# Altium schematic symbol library STM32系列单片机.SchLib: 11 symbols
Pins are listed as number, name and electrical type; pins without a type are passive.

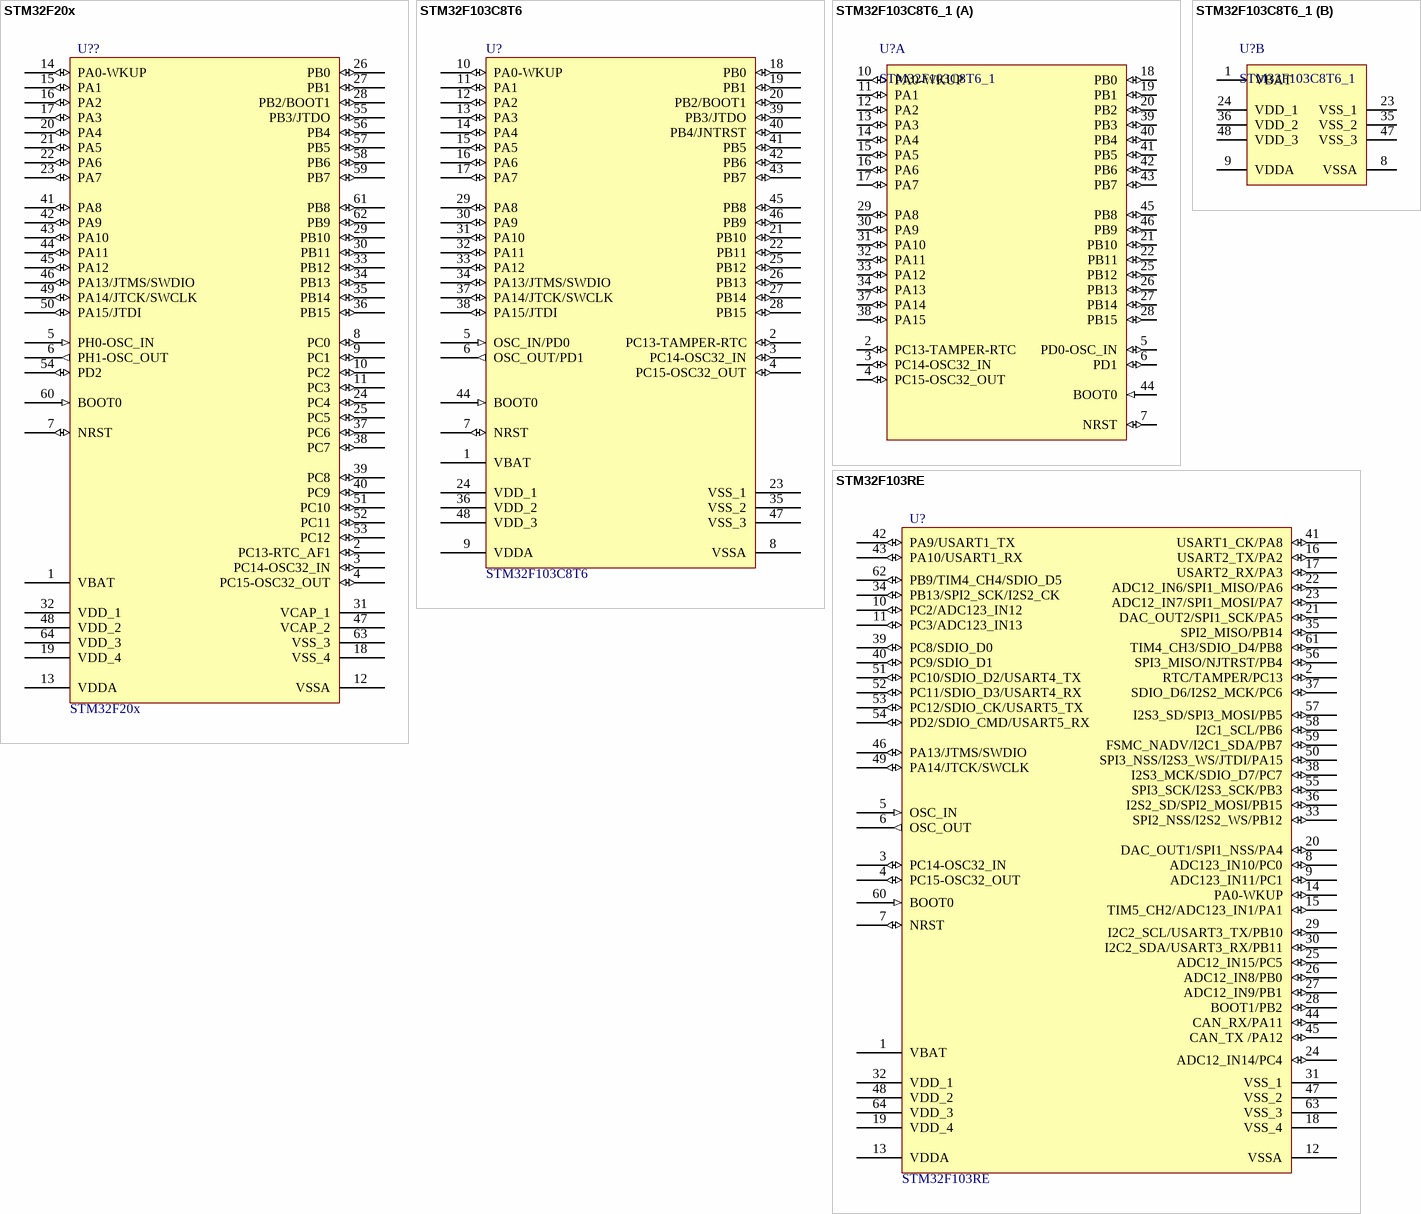
[diagram p0: symbols STM32F20x to STM32F103RE]

## STM32F20x
designator U??
32位ST单片机; 版权归属: 源创客; BOM名称: 32位ST单片机; 学习资源: www.ooocke.com
footprint LQFP64 10X10_L (64脚，体宽10x10mm，脚距0.5mm)
footprint LQFP64 10X10_M (64脚，体宽10x10mm，脚距0.5mm)
footprint LQFP64 10X10_N (64脚，体宽10x10mm，脚距0.5mm)
pins: 1 VBAT (power), 2 PC13-RTC_AF1 (io), 3 PC14-OSC32_IN (io), 4 PC15-OSC32_OUT (io), 5 PH0-OSC_IN (in), 6 PH1-OSC_OUT (out), 7 NRST (io), 8 PC0 (io), 9 PC1 (io), 10 PC2 (io), 11 PC3 (io), 12 VSSA (power), 13 VDDA (power), 14 PA0-WKUP (io), 15 PA1 (io), 16 PA2 (io), 17 PA3 (io), 18 VSS_4 (power), 19 VDD_4 (power), 20 PA4 (io), 21 PA5 (io), 22 PA6 (io), 23 PA7 (io), 24 PC4 (io), 25 PC5 (io), 26 PB0 (io), 27 PB1 (io), 28 PB2/BOOT1 (io), 29 PB10 (io), 30 PB11 (io), 31 VCAP_1, 32 VDD_1 (power), 33 PB12 (io), 34 PB13 (io), 35 PB14 (io), 36 PB15 (io), 37 PC6 (io), 38 PC7 (io), 39 PC8 (io), 40 PC9 (io), 41 PA8 (io), 42 PA9 (io), 43 PA10 (io), 44 PA11 (io), 45 PA12 (io), 46 PA13/JTMS/SWDIO (io), 47 VCAP_2, 48 VDD_2 (power), 49 PA14/JTCK/SWCLK (io), 50 PA15/JTDI (io), 51 PC10 (io), 52 PC11 (io), 53 PC12 (io), 54 PD2 (io), 55 PB3/JTDO (io), 56 PB4 (io), 57 PB5 (io), 58 PB6 (io), 59 PB7 (io), 60 BOOT0 (in), 61 PB8 (io), 62 PB9 (io), 63 VSS_3 (power), 64 VDD_3 (power)

## STM32F103C8T6
designator U?
Flaah:64/RAM:20/IO:36; BOM名称: 32位STM单片机; 版权归属: 源创客; 学习资源: www.ooocke.com
footprint LQFP48 7X7_N (48脚，体宽7x7mm，脚距0.5mm)
footprint LQFP48 7X7_M (48脚，体宽7x7mm，脚距0.5mm)
footprint LQFP48 7X7_L (48脚，体宽7x7mm，脚距0.5mm)
pins: 1 VBAT (power), 2 PC13-TAMPER-RTC (io), 3 PC14-OSC32_IN (io), 4 PC15-OSC32_OUT (io), 5 OSC_IN/PD0 (in), 6 OSC_OUT/PD1 (out), 7 NRST (io), 8 VSSA (power), 9 VDDA (power), 10 PA0-WKUP (io), 11 PA1 (io), 12 PA2 (io), 13 PA3 (io), 14 PA4 (io), 15 PA5 (io), 16 PA6 (io), 17 PA7 (io), 18 PB0 (io), 19 PB1 (io), 20 PB2/BOOT1 (io), 21 PB10 (io), 22 PB11 (io), 23 VSS_1 (power), 24 VDD_1 (power), 25 PB12 (io), 26 PB13 (io), 27 PB14 (io), 28 PB15 (io), 29 PA8 (io), 30 PA9 (io), 31 PA10 (io), 32 PA11 (io), 33 PA12 (io), 34 PA13/JTMS/SWDIO (io), 35 VSS_2 (power), 36 VDD_2 (power), 37 PA14/JTCK/SWCLK (io), 38 PA15/JTDI (io), 39 PB3/JTDO (io), 40 PB4/JNTRST (io), 41 PB5 (io), 42 PB6 (io), 43 PB7 (io), 44 BOOT0 (in), 45 PB8 (io), 46 PB9 (io), 47 VSS_3 (power), 48 VDD_3 (power)

## STM32F103C8T6_1
designator U?
Flaah:64/RAM:20/IO:36; BOM名称: 32位STM单片机; 版权归属: 源创客; 学习资源: www.ooocke.com
footprint LQFP48 7X7_N (48脚，体宽7x7mm，脚距0.5mm)
footprint LQFP48 7X7_L (48脚，体宽7x7mm，脚距0.5mm)
footprint LQFP48 7X7_M (48脚，体宽7x7mm，脚距0.5mm)
part A pins: 2 PC13-TAMPER-RTC (io), 3 PC14-OSC32_IN (io), 4 PC15-OSC32_OUT (io), 5 PD0-OSC_IN (io), 6 PD1 (io), 7 NRST (io), 10 PA0-WKUP (io), 11 PA1 (io), 12 PA2 (io), 13 PA3 (io), 14 PA4 (io), 15 PA5 (io), 16 PA6 (io), 17 PA7 (io), 18 PB0 (io), 19 PB1 (io), 20 PB2 (io), 21 PB10 (io), 22 PB11 (io), 25 PB12 (io), 26 PB13 (io), 27 PB14 (io), 28 PB15 (io), 29 PA8 (io), 30 PA9 (io), 31 PA10 (io), 32 PA11 (io), 33 PA12 (io), 34 PA13 (io), 37 PA14 (io), 38 PA15 (io), 39 PB3 (io), 40 PB4 (io), 41 PB5 (io), 42 PB6 (io), 43 PB7 (io), 44 BOOT0 (in), 45 PB8 (io), 46 PB9 (io)
part B pins: 1 VBAT (power), 8 VSSA (power), 9 VDDA (power), 23 VSS_1 (power), 24 VDD_1 (power), 35 VSS_2 (power), 36 VDD_2 (power), 47 VSS_3 (power), 48 VDD_3 (power)

## STM32F103RE
designator U?
32位STM单片机; 版权归属: 源创客; BOM名称: 32位STM单片机; 学习资源: www.ooocke.com
footprint LQFP64 10X10_L (64脚，体宽10x10mm，脚距0.5mm)
footprint LQFP64 10X10_M (64脚，体宽10x10mm，脚距0.5mm)
footprint LQFP64 10X10_N (64脚，体宽10x10mm，脚距0.5mm)
pins: 1 VBAT (power), 2 RTC/TAMPER/PC13 (io), 3 PC14-OSC32_IN (io), 4 PC15-OSC32_OUT (io), 5 OSC_IN (in), 6 OSC_OUT (out), 7 NRST (io), 8 ADC123_IN10/PC0 (io), 9 ADC123_IN11/PC1 (io), 10 PC2/ADC123_IN12 (io), 11 PC3/ADC123_IN13 (io), 12 VSSA (power), 13 VDDA (power), 14 PA0-WKUP (io), 15 TIM5_CH2/ADC123_IN1/PA1 (io), 16 USART2_TX/PA2 (io), 17 USART2_RX/PA3 (io), 18 VSS_4 (power), 19 VDD_4 (power), 20 DAC_OUT1/SPI1_NSS/PA4 (io), 21 DAC_OUT2/SPI1_SCK/PA5 (io), 22 ADC12_IN6/SPI1_MISO/PA6 (io), 23 ADC12_IN7/SPI1_MOSI/PA7 (io), 24 ADC12_IN14/PC4 (io), 25 ADC12_IN15/PC5 (io), 26 ADC12_IN8/PB0 (io), 27 ADC12_IN9/PB1 (io), 28 BOOT1/PB2 (io), 29 I2C2_SCL/USART3_TX/PB10 (io), 30 I2C2_SDA/USART3_RX/PB11 (io), 31 VSS_1, 32 VDD_1 (power), 33 SPI2_NSS/I2S2_WS/PB12 (io), 34 PB13/SPI2_SCK/I2S2_CK (io), 35 SPI2_MISO/PB14 (io), 36 I2S2_SD/SPI2_MOSI/PB15 (io), 37 SDIO_D6/I2S2_MCK/PC6 (io), 38 I2S3_MCK/SDIO_D7/PC7 (io), 39 PC8/SDIO_D0 (io), 40 PC9/SDIO_D1 (io), 41 USART1_CK/PA8 (io), 42 PA9/USART1_TX (io), 43 PA10/USART1_RX (io), 44 CAN_RX/PA11 (io), 45 CAN_TX /PA12 (io), 46 PA13/JTMS/SWDIO (io), 47 VSS_2, 48 VDD_2 (power), 49 PA14/JTCK/SWCLK (io), 50 SPI3_NSS/I2S3_WS/JTDI/PA15 (io), 51 PC10/SDIO_D2/USART4_TX (io), 52 PC11/SDIO_D3/USART4_RX (io), 53 PC12/SDIO_CK/USART5_TX (io), 54 PD2/SDIO_CMD/USART5_RX (io), 55 SPI3_SCK/I2S3_SCK/PB3 (io), 56 SPI3_MISO/NJTRST/PB4 (io), 57 I2S3_SD/SPI3_MOSI/PB5 (io), 58 I2C1_SCL/PB6 (io), 59 FSMC_NADV/I2C1_SDA/PB7 (io), 60 BOOT0 (in), 61 TIM4_CH3/SDIO_D4/PB8 (io), 62 PB9/TIM4_CH4/SDIO_D5 (io), 63 VSS_3 (power), 64 VDD_3 (power)

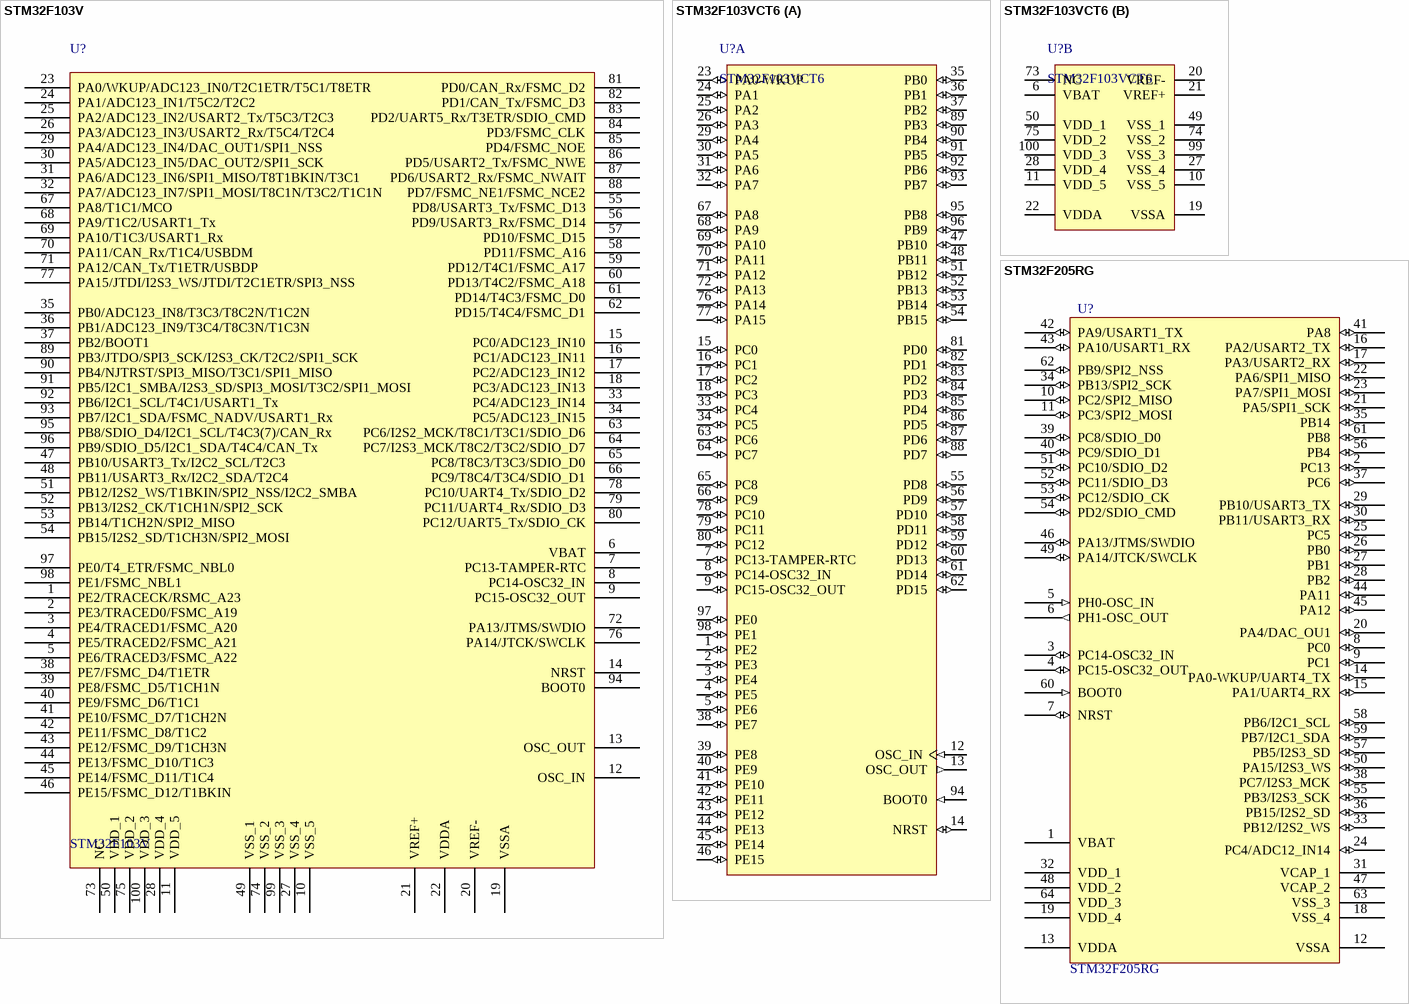
[diagram p1: symbols STM32F103V to STM32F205RG]

## STM32F103V
designator U?
32位STM单片机100引脚; 版权归属: 源创客; BOM名称: 32位STM单片机100引脚; 学习资源: www.ooocke.com
footprint LQFP100 14X14_L (100脚，体宽14x14mm，脚距0.5mm)
footprint LQFP100 14X14_M (100脚，体宽14x14mm，脚距0.5mm)
footprint LQFP100 14X14_N (100脚，体宽14x14mm，脚距0.5mm)
pins: 1 PE2/TRACECK/RSMC_A23, 2 PE3/TRACED0/FSMC_A19, 3 PE4/TRACED1/FSMC_A20, 4 PE5/TRACED2/FSMC_A21, 5 PE6/TRACED3/FSMC_A22, 6 VBAT, 7 PC13-TAMPER-RTC, 8 PC14-OSC32_IN, 9 PC15-OSC32_OUT, 10 VSS_5, 11 VDD_5, 12 OSC_IN, 13 OSC_OUT, 14 NRST, 15 PC0/ADC123_IN10, 16 PC1/ADC123_IN11, 17 PC2/ADC123_IN12, 18 PC3/ADC123_IN13, 19 VSSA, 20 VREF-, 21 VREF+, 22 VDDA, 23 PA0/WKUP/ADC123_IN0/T2C1ETR/T5C1/T8ETR, 24 PA1/ADC123_IN1/T5C2/T2C2, 25 PA2/ADC123_IN2/USART2_Tx/T5C3/T2C3, 26 PA3/ADC123_IN3/USART2_Rx/T5C4/T2C4, 27 VSS_4, 28 VDD_4, 29 PA4/ADC123_IN4/DAC_OUT1/SPI1_NSS, 30 PA5/ADC123_IN5/DAC_OUT2/SPI1_SCK, 31 PA6/ADC123_IN6/SPI1_MISO/T8T1BKIN/T3C1, 32 PA7/ADC123_IN7/SPI1_MOSI/T8C1N/T3C2/T1C1N, 33 PC4/ADC123_IN14, 34 PC5/ADC123_IN15, 35 PB0/ADC123_IN8/T3C3/T8C2N/T1C2N, 36 PB1/ADC123_IN9/T3C4/T8C3N/T1C3N, 37 PB2/BOOT1, 38 PE7/FSMC_D4/T1ETR, 39 PE8/FSMC_D5/T1CH1N, 40 PE9/FSMC_D6/T1C1, 41 PE10/FSMC_D7/T1CH2N, 42 PE11/FSMC_D8/T1C2, 43 PE12/FSMC_D9/T1CH3N, 44 PE13/FSMC_D10/T1C3, 45 PE14/FSMC_D11/T1C4, 46 PE15/FSMC_D12/T1BKIN, 47 PB10/USART3_Tx/I2C2_SCL/T2C3, 48 PB11/USART3_Rx/I2C2_SDA/T2C4, 49 VSS_1, 50 VDD_1, 51 PB12/I2S2_WS/T1BKIN/SPI2_NSS/I2C2_SMBA, 52 PB13/I2S2_CK/T1CH1N/SPI2_SCK, 53 PB14/T1CH2N/SPI2_MISO, 54 PB15/I2S2_SD/T1CH3N/SPI2_MOSI, 55 PD8/USART3_Tx/FSMC_D13, 56 PD9/USART3_Rx/FSMC_D14, 57 PD10/FSMC_D15, 58 PD11/FSMC_A16, 59 PD12/T4C1/FSMC_A17, 60 PD13/T4C2/FSMC_A18, 61 PD14/T4C3/FSMC_D0, 62 PD15/T4C4/FSMC_D1, 63 PC6/I2S2_MCK/T8C1/T3C1/SDIO_D6, 64 PC7/I2S3_MCK/T8C2/T3C2/SDIO_D7, 65 PC8/T8C3/T3C3/SDIO_D0, 66 PC9/T8C4/T3C4/SDIO_D1, 67 PA8/T1C1/MCO, 68 PA9/T1C2/USART1_Tx, 69 PA10/T1C3/USART1_Rx, 70 PA11/CAN_Rx/T1C4/USBDM, 71 PA12/CAN_Tx/T1ETR/USBDP, 72 PA13/JTMS/SWDIO, 73 NC, 74 VSS_2, 75 VDD_2, 76 PA14/JTCK/SWCLK, 77 PA15/JTDI/I2S3_WS/JTDI/T2C1ETR/SPI3_NSS, 78 PC10/UART4_Tx/SDIO_D2, 79 PC11/UART4_Rx/SDIO_D3, 80 PC12/UART5_Tx/SDIO_CK, 81 PD0/CAN_Rx/FSMC_D2, 82 PD1/CAN_Tx/FSMC_D3, 83 PD2/UART5_Rx/T3ETR/SDIO_CMD, 84 PD3/FSMC_CLK, 85 PD4/FSMC_NOE, 86 PD5/USART2_Tx/FSMC_NWE, 87 PD6/USART2_Rx/FSMC_NWAIT, 88 PD7/FSMC_NE1/FSMC_NCE2, 89 PB3/JTDO/SPI3_SCK/I2S3_CK/T2C2/SPI1_SCK, 90 PB4/NJTRST/SPI3_MISO/T3C1/SPI1_MISO, 91 PB5/I2C1_SMBA/I2S3_SD/SPI3_MOSI/T3C2/SPI1_MOSI, 92 PB6/I2C1_SCL/T4C1/USART1_Tx, 93 PB7/I2C1_SDA/FSMC_NADV/USART1_Rx, 94 BOOT0, 95 PB8/SDIO_D4/I2C1_SCL/T4C3(7)/CAN_Rx, 96 PB9/SDIO_D5/I2C1_SDA/T4C4/CAN_Tx, 97 PE0/T4_ETR/FSMC_NBL0, 98 PE1/FSMC_NBL1, 99 VSS_3, 100 VDD_3

## STM32F103VCT6
designator U?
32位STM单片机100引脚; 版权归属: 源创客; BOM名称: 32位STM单片机100引脚; 学习资源: www.ooocke.com
footprint LQFP100 14X14_N (100脚，体宽14x14mm，脚距0.5mm)
footprint LQFP100 14X14_L (100脚，体宽14x14mm，脚距0.5mm)
footprint LQFP100 14X14_M (100脚，体宽14x14mm，脚距0.5mm)
part A pins: 1 PE2 (io), 2 PE3 (io), 3 PE4 (io), 4 PE5 (io), 5 PE6 (io), 7 PC13-TAMPER-RTC (io), 8 PC14-OSC32_IN (io), 9 PC15-OSC32_OUT (io), 12 OSC_IN (in), 13 OSC_OUT (out), 14 NRST (io), 15 PC0 (io), 16 PC1 (io), 17 PC2 (io), 18 PC3 (io), 23 PA0-WKUP (io), 24 PA1 (io), 25 PA2 (io), 26 PA3 (io), 29 PA4 (io), 30 PA5 (io), 31 PA6 (io), 32 PA7 (io), 33 PC4 (io), 34 PC5 (io), 35 PB0 (io), 36 PB1 (io), 37 PB2 (io), 38 PE7 (io), 39 PE8 (io), 40 PE9 (io), 41 PE10 (io), 42 PE11 (io), 43 PE12 (io), 44 PE13 (io), 45 PE14 (io), 46 PE15 (io), 47 PB10 (io), 48 PB11 (io), 51 PB12 (io), 52 PB13 (io), 53 PB14 (io), 54 PB15 (io), 55 PD8 (io), 56 PD9 (io), 57 PD10 (io), 58 PD11 (io), 59 PD12 (io), 60 PD13 (io), 61 PD14 (io), 62 PD15 (io), 63 PC6 (io), 64 PC7 (io), 65 PC8 (io), 66 PC9 (io), 67 PA8 (io), 68 PA9 (io), 69 PA10 (io), 70 PA11 (io), 71 PA12 (io), 72 PA13 (io), 76 PA14 (io), 77 PA15 (io), 78 PC10 (io), 79 PC11 (io), 80 PC12 (io), 81 PD0 (io), 82 PD1 (io), 83 PD2 (io), 84 PD3 (io), 85 PD4 (io), 86 PD5 (io), 87 PD6 (io), 88 PD7 (io), 89 PB3 (io), 90 PB4 (io), 91 PB5 (io), 92 PB6 (io), 93 PB7 (io), 94 BOOT0 (in), 95 PB8 (io), 96 PB9 (io), 97 PE0 (io), 98 PE1 (io)
part B pins: 6 VBAT (power), 10 VSS_5 (power), 11 VDD_5 (power), 19 VSSA (power), 20 VREF- (power), 21 VREF+ (power), 22 VDDA (power), 27 VSS_4 (power), 28 VDD_4 (power), 49 VSS_1 (power), 50 VDD_1 (power), 73 NC, 74 VSS_2 (power), 75 VDD_2 (power), 99 VSS_3 (power), 100 VDD_3 (power)

## STM32F205RG
designator U?
32位STM单片机; 版权归属: 源创客; BOM名称: 32位STM单片机; 学习资源: www.ooocke.com
footprint LQFP64 10X10_L (64脚，体宽10x10mm，脚距0.5mm)
footprint LQFP64 10X10_M (64脚，体宽10x10mm，脚距0.5mm)
footprint LQFP64 10X10_N (64脚，体宽10x10mm，脚距0.5mm)
pins: 1 VBAT (power), 2 PC13 (io), 3 PC14-OSC32_IN (io), 4 PC15-OSC32_OUT (io), 5 PH0-OSC_IN (in), 6 PH1-OSC_OUT (out), 7 NRST (io), 8 PC0 (io), 9 PC1 (io), 10 PC2/SPI2_MISO (io), 11 PC3/SPI2_MOSI (io), 12 VSSA (power), 13 VDDA (power), 14 PA0-WKUP/UART4_TX (io), 15 PA1/UART4_RX (io), 16 PA2/USART2_TX (io), 17 PA3/USART2_RX (io), 18 VSS_4 (power), 19 VDD_4 (power), 20 PA4/DAC_OU1 (io), 21 PA5/SPI1_SCK (io), 22 PA6/SPI1_MISO (io), 23 PA7/SPI1_MOSI (io), 24 PC4/ADC12_IN14 (io), 25 PC5 (io), 26 PB0 (io), 27 PB1 (io), 28 PB2 (io), 29 PB10/USART3_TX (io), 30 PB11/USART3_RX (io), 31 VCAP_1, 32 VDD_1 (power), 33 PB12/I2S2_WS (io), 34 PB13/SPI2_SCK (io), 35 PB14 (io), 36 PB15/I2S2_SD (io), 37 PC6 (io), 38 PC7/I2S3_MCK (io), 39 PC8/SDIO_D0 (io), 40 PC9/SDIO_D1 (io), 41 PA8 (io), 42 PA9/USART1_TX (io), 43 PA10/USART1_RX (io), 44 PA11 (io), 45 PA12 (io), 46 PA13/JTMS/SWDIO (io), 47 VCAP_2, 48 VDD_2 (power), 49 PA14/JTCK/SWCLK (io), 50 PA15/I2S3_WS (io), 51 PC10/SDIO_D2 (io), 52 PC11/SDIO_D3 (io), 53 PC12/SDIO_CK (io), 54 PD2/SDIO_CMD (io), 55 PB3/I2S3_SCK (io), 56 PB4 (io), 57 PB5/I2S3_SD (io), 58 PB6/I2C1_SCL (io), 59 PB7/I2C1_SDA (io), 60 BOOT0 (in), 61 PB8 (io), 62 PB9/SPI2_NSS (io), 63 VSS_3 (power), 64 VDD_3 (power)

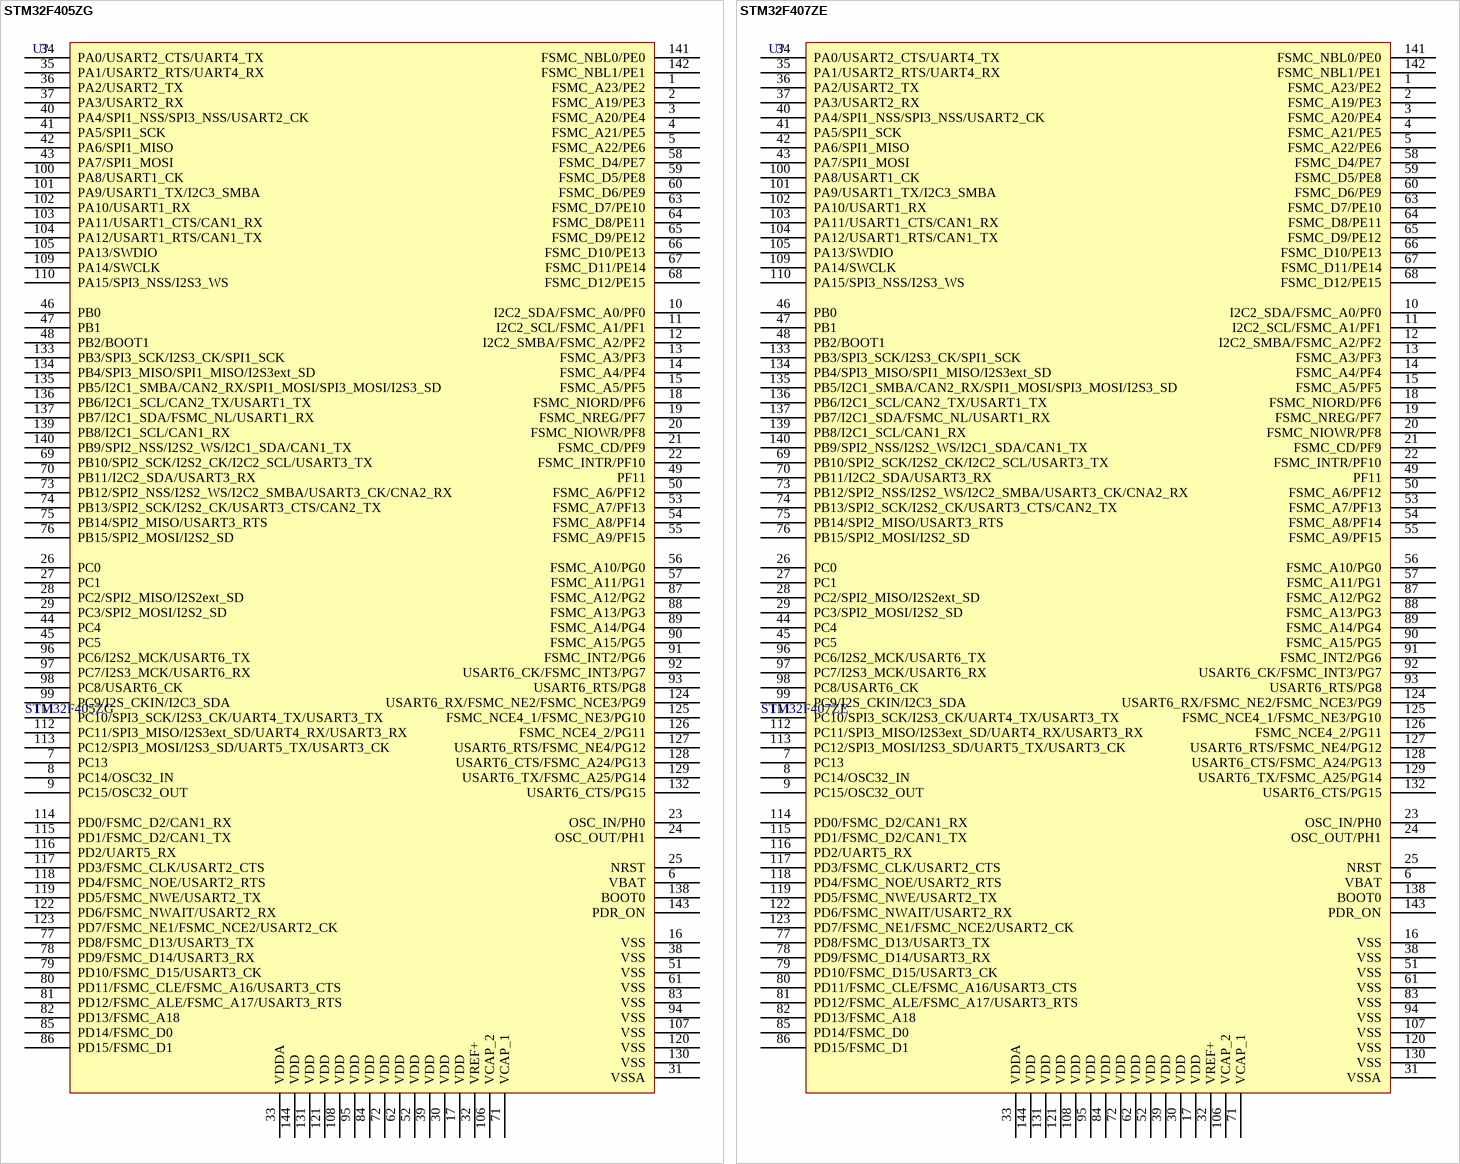
[diagram p2: symbols STM32F405ZG to STM32F407ZE]

## STM32F405ZG
designator U?
Flaah:1024/RAM:192/IO:114; BOM名称: 32位ST单片机; 版权归属: 源创客; 学习资源: www.ooocke.com
footprint LQFP144 20X20_L (144脚，体宽20x20mm，脚距0.5mm)
footprint LQFP144 20X20_M (144脚，体宽20x20mm，脚距0.5mm)
footprint LQFP144 20X20_N (144脚，体宽20x20mm，脚距0.5mm)
pins: 1 FSMC_A23/PE2, 2 FSMC_A19/PE3, 3 FSMC_A20/PE4, 4 FSMC_A21/PE5, 5 FSMC_A22/PE6, 6 VBAT, 7 PC13, 8 PC14/OSC32_IN, 9 PC15/OSC32_OUT, 10 I2C2_SDA/FSMC_A0/PF0, 11 I2C2_SCL/FSMC_A1/PF1, 12 I2C2_SMBA/FSMC_A2/PF2, 13 FSMC_A3/PF3, 14 FSMC_A4/PF4, 15 FSMC_A5/PF5, 16 VSS, 17 VDD, 18 FSMC_NIORD/PF6, 19 FSMC_NREG/PF7, 20 FSMC_NIOWR/PF8, 21 FSMC_CD/PF9, 22 FSMC_INTR/PF10, 23 OSC_IN/PH0, 24 OSC_OUT/PH1, 25 NRST, 26 PC0, 27 PC1, 28 PC2/SPI2_MISO/I2S2ext_SD, 29 PC3/SPI2_MOSI/I2S2_SD, 30 VDD, 31 VSSA, 32 VREF+, 33 VDDA, 34 PA0/USART2_CTS/UART4_TX, 35 PA1/USART2_RTS/UART4_RX, 36 PA2/USART2_TX, 37 PA3/USART2_RX, 38 VSS, 39 VDD, 40 PA4/SPI1_NSS/SPI3_NSS/USART2_CK, 41 PA5/SPI1_SCK, 42 PA6/SPI1_MISO, 43 PA7/SPI1_MOSI, 44 PC4, 45 PC5, 46 PB0, 47 PB1, 48 PB2/BOOT1, 49 PF11, 50 FSMC_A6/PF12, 51 VSS, 52 VDD, 53 FSMC_A7/PF13, 54 FSMC_A8/PF14, 55 FSMC_A9/PF15, 56 FSMC_A10/PG0, 57 FSMC_A11/PG1, 58 FSMC_D4/PE7, 59 FSMC_D5/PE8, 60 FSMC_D6/PE9, 61 VSS, 62 VDD, 63 FSMC_D7/PE10, 64 FSMC_D8/PE11, 65 FSMC_D9/PE12, 66 FSMC_D10/PE13, 67 FSMC_D11/PE14, 68 FSMC_D12/PE15, 69 PB10/SPI2_SCK/I2S2_CK/I2C2_SCL/USART3_TX, 70 PB11/I2C2_SDA/USART3_RX, 71 VCAP_1, 72 VDD, 73 PB12/SPI2_NSS/I2S2_WS/I2C2_SMBA/USART3_CK/CNA2_RX, 74 PB13/SPI2_SCK/I2S2_CK/USART3_CTS/CAN2_TX, 75 PB14/SPI2_MISO/USART3_RTS, 76 PB15/SPI2_MOSI/I2S2_SD, 77 PD8/FSMC_D13/USART3_TX, 78 PD9/FSMC_D14/USART3_RX, 79 PD10/FSMC_D15/USART3_CK, 80 PD11/FSMC_CLE/FSMC_A16/USART3_CTS, 81 PD12/FSMC_ALE/FSMC_A17/USART3_RTS, 82 PD13/FSMC_A18, 83 VSS, 84 VDD, 85 PD14/FSMC_D0, 86 PD15/FSMC_D1, 87 FSMC_A12/PG2, 88 FSMC_A13/PG3, 89 FSMC_A14/PG4, 90 FSMC_A15/PG5, 91 FSMC_INT2/PG6, 92 USART6_CK/FSMC_INT3/PG7, 93 USART6_RTS/PG8, 94 VSS, 95 VDD, 96 PC6/I2S2_MCK/USART6_TX, 97 PC7/I2S3_MCK/USART6_RX, 98 PC8/USART6_CK, 99 PC9/I2S_CKIN/I2C3_SDA, 100 PA8/USART1_CK, 101 PA9/USART1_TX/I2C3_SMBA, 102 PA10/USART1_RX, 103 PA11/USART1_CTS/CAN1_RX, 104 PA12/USART1_RTS/CAN1_TX, 105 PA13/SWDIO, 106 VCAP_2, 107 VSS, 108 VDD, 109 PA14/SWCLK, 110 PA15/SPI3_NSS/I2S3_WS, 111 PC10/SPI3_SCK/I2S3_CK/UART4_TX/USART3_TX, 112 PC11/SPI3_MISO/I2S3ext_SD/UART4_RX/USART3_RX, 113 PC12/SPI3_MOSI/I2S3_SD/UART5_TX/USART3_CK, 114 PD0/FSMC_D2/CAN1_RX, 115 PD1/FSMC_D2/CAN1_TX, 116 PD2/UART5_RX, 117 PD3/FSMC_CLK/USART2_CTS, 118 PD4/FSMC_NOE/USART2_RTS, 119 PD5/FSMC_NWE/USART2_TX, 120 VSS, 121 VDD, 122 PD6/FSMC_NWAIT/USART2_RX, 123 PD7/FSMC_NE1/FSMC_NCE2/USART2_CK, 124 USART6_RX/FSMC_NE2/FSMC_NCE3/PG9, 125 FSMC_NCE4_1/FSMC_NE3/PG10, 126 FSMC_NCE4_2/PG11, 127 USART6_RTS/FSMC_NE4/PG12, 128 USART6_CTS/FSMC_A24/PG13, 129 USART6_TX/FSMC_A25/PG14, 130 VSS, 131 VDD, 132 USART6_CTS/PG15, 133 PB3/SPI3_SCK/I2S3_CK/SPI1_SCK, 134 PB4/SPI3_MISO/SPI1_MISO/I2S3ext_SD, 135 PB5/I2C1_SMBA/CAN2_RX/SPI1_MOSI/SPI3_MOSI/I2S3_SD, 136 PB6/I2C1_SCL/CAN2_TX/USART1_TX, 137 PB7/I2C1_SDA/FSMC_NL/USART1_RX, 138 BOOT0, 139 PB8/I2C1_SCL/CAN1_RX, 140 PB9/SPI2_NSS/I2S2_WS/I2C1_SDA/CAN1_TX, 141 FSMC_NBL0/PE0, 142 FSMC_NBL1/PE1, 143 PDR_ON, 144 VDD

## STM32F407ZE
designator U?
Flaah:512/RAM:192/IO:114; BOM名称: 32位ST单片机; 版权归属: 源创客; 学习资源: www.ooocke.com
footprint LQFP144 20X20_L (144脚，体宽20x20mm，脚距0.5mm)
footprint LQFP144 20X20_M (144脚，体宽20x20mm，脚距0.5mm)
footprint LQFP144 20X20_N (144脚，体宽20x20mm，脚距0.5mm)
pins: 1 FSMC_A23/PE2, 2 FSMC_A19/PE3, 3 FSMC_A20/PE4, 4 FSMC_A21/PE5, 5 FSMC_A22/PE6, 6 VBAT, 7 PC13, 8 PC14/OSC32_IN, 9 PC15/OSC32_OUT, 10 I2C2_SDA/FSMC_A0/PF0, 11 I2C2_SCL/FSMC_A1/PF1, 12 I2C2_SMBA/FSMC_A2/PF2, 13 FSMC_A3/PF3, 14 FSMC_A4/PF4, 15 FSMC_A5/PF5, 16 VSS, 17 VDD, 18 FSMC_NIORD/PF6, 19 FSMC_NREG/PF7, 20 FSMC_NIOWR/PF8, 21 FSMC_CD/PF9, 22 FSMC_INTR/PF10, 23 OSC_IN/PH0, 24 OSC_OUT/PH1, 25 NRST, 26 PC0, 27 PC1, 28 PC2/SPI2_MISO/I2S2ext_SD, 29 PC3/SPI2_MOSI/I2S2_SD, 30 VDD, 31 VSSA, 32 VREF+, 33 VDDA, 34 PA0/USART2_CTS/UART4_TX, 35 PA1/USART2_RTS/UART4_RX, 36 PA2/USART2_TX, 37 PA3/USART2_RX, 38 VSS, 39 VDD, 40 PA4/SPI1_NSS/SPI3_NSS/USART2_CK, 41 PA5/SPI1_SCK, 42 PA6/SPI1_MISO, 43 PA7/SPI1_MOSI, 44 PC4, 45 PC5, 46 PB0, 47 PB1, 48 PB2/BOOT1, 49 PF11, 50 FSMC_A6/PF12, 51 VSS, 52 VDD, 53 FSMC_A7/PF13, 54 FSMC_A8/PF14, 55 FSMC_A9/PF15, 56 FSMC_A10/PG0, 57 FSMC_A11/PG1, 58 FSMC_D4/PE7, 59 FSMC_D5/PE8, 60 FSMC_D6/PE9, 61 VSS, 62 VDD, 63 FSMC_D7/PE10, 64 FSMC_D8/PE11, 65 FSMC_D9/PE12, 66 FSMC_D10/PE13, 67 FSMC_D11/PE14, 68 FSMC_D12/PE15, 69 PB10/SPI2_SCK/I2S2_CK/I2C2_SCL/USART3_TX, 70 PB11/I2C2_SDA/USART3_RX, 71 VCAP_1, 72 VDD, 73 PB12/SPI2_NSS/I2S2_WS/I2C2_SMBA/USART3_CK/CNA2_RX, 74 PB13/SPI2_SCK/I2S2_CK/USART3_CTS/CAN2_TX, 75 PB14/SPI2_MISO/USART3_RTS, 76 PB15/SPI2_MOSI/I2S2_SD, 77 PD8/FSMC_D13/USART3_TX, 78 PD9/FSMC_D14/USART3_RX, 79 PD10/FSMC_D15/USART3_CK, 80 PD11/FSMC_CLE/FSMC_A16/USART3_CTS, 81 PD12/FSMC_ALE/FSMC_A17/USART3_RTS, 82 PD13/FSMC_A18, 83 VSS, 84 VDD, 85 PD14/FSMC_D0, 86 PD15/FSMC_D1, 87 FSMC_A12/PG2, 88 FSMC_A13/PG3, 89 FSMC_A14/PG4, 90 FSMC_A15/PG5, 91 FSMC_INT2/PG6, 92 USART6_CK/FSMC_INT3/PG7, 93 USART6_RTS/PG8, 94 VSS, 95 VDD, 96 PC6/I2S2_MCK/USART6_TX, 97 PC7/I2S3_MCK/USART6_RX, 98 PC8/USART6_CK, 99 PC9/I2S_CKIN/I2C3_SDA, 100 PA8/USART1_CK, 101 PA9/USART1_TX/I2C3_SMBA, 102 PA10/USART1_RX, 103 PA11/USART1_CTS/CAN1_RX, 104 PA12/USART1_RTS/CAN1_TX, 105 PA13/SWDIO, 106 VCAP_2, 107 VSS, 108 VDD, 109 PA14/SWCLK, 110 PA15/SPI3_NSS/I2S3_WS, 111 PC10/SPI3_SCK/I2S3_CK/UART4_TX/USART3_TX, 112 PC11/SPI3_MISO/I2S3ext_SD/UART4_RX/USART3_RX, 113 PC12/SPI3_MOSI/I2S3_SD/UART5_TX/USART3_CK, 114 PD0/FSMC_D2/CAN1_RX, 115 PD1/FSMC_D2/CAN1_TX, 116 PD2/UART5_RX, 117 PD3/FSMC_CLK/USART2_CTS, 118 PD4/FSMC_NOE/USART2_RTS, 119 PD5/FSMC_NWE/USART2_TX, 120 VSS, 121 VDD, 122 PD6/FSMC_NWAIT/USART2_RX, 123 PD7/FSMC_NE1/FSMC_NCE2/USART2_CK, 124 USART6_RX/FSMC_NE2/FSMC_NCE3/PG9, 125 FSMC_NCE4_1/FSMC_NE3/PG10, 126 FSMC_NCE4_2/PG11, 127 USART6_RTS/FSMC_NE4/PG12, 128 USART6_CTS/FSMC_A24/PG13, 129 USART6_TX/FSMC_A25/PG14, 130 VSS, 131 VDD, 132 USART6_CTS/PG15, 133 PB3/SPI3_SCK/I2S3_CK/SPI1_SCK, 134 PB4/SPI3_MISO/SPI1_MISO/I2S3ext_SD, 135 PB5/I2C1_SMBA/CAN2_RX/SPI1_MOSI/SPI3_MOSI/I2S3_SD, 136 PB6/I2C1_SCL/CAN2_TX/USART1_TX, 137 PB7/I2C1_SDA/FSMC_NL/USART1_RX, 138 BOOT0, 139 PB8/I2C1_SCL/CAN1_RX, 140 PB9/SPI2_NSS/I2S2_WS/I2C1_SDA/CAN1_TX, 141 FSMC_NBL0/PE0, 142 FSMC_NBL1/PE1, 143 PDR_ON, 144 VDD

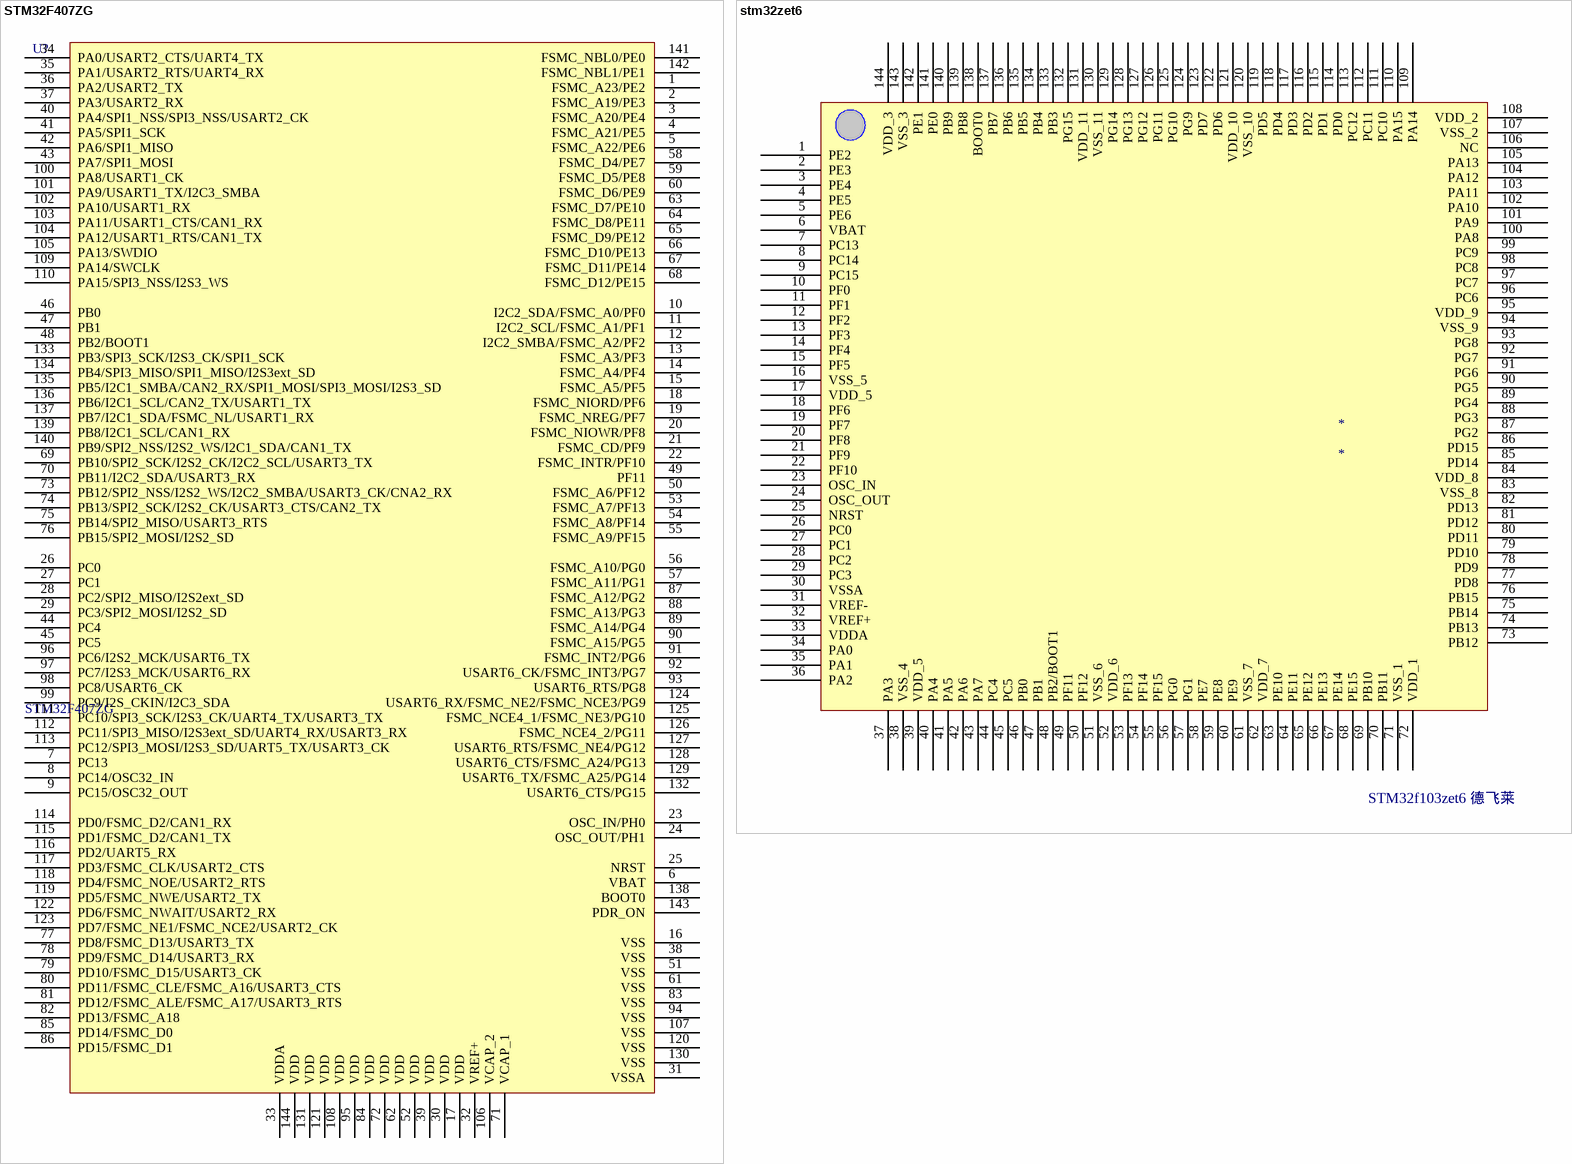
[diagram p3: symbols STM32F407ZG to stm32zet6]

## STM32F407ZG
designator U?
Flaah:1024/RAM:192/IO:114; BOM名称: 32位ST单片机; 版权归属: 源创客; 学习资源: www.ooocke.com
footprint LQFP144 20X20_L (144脚，体宽20x20mm，脚距0.5mm)
footprint LQFP144 20X20_M (144脚，体宽20x20mm，脚距0.5mm)
footprint LQFP144 20X20_N (144脚，体宽20x20mm，脚距0.5mm)
pins: 1 FSMC_A23/PE2, 2 FSMC_A19/PE3, 3 FSMC_A20/PE4, 4 FSMC_A21/PE5, 5 FSMC_A22/PE6, 6 VBAT, 7 PC13, 8 PC14/OSC32_IN, 9 PC15/OSC32_OUT, 10 I2C2_SDA/FSMC_A0/PF0, 11 I2C2_SCL/FSMC_A1/PF1, 12 I2C2_SMBA/FSMC_A2/PF2, 13 FSMC_A3/PF3, 14 FSMC_A4/PF4, 15 FSMC_A5/PF5, 16 VSS, 17 VDD, 18 FSMC_NIORD/PF6, 19 FSMC_NREG/PF7, 20 FSMC_NIOWR/PF8, 21 FSMC_CD/PF9, 22 FSMC_INTR/PF10, 23 OSC_IN/PH0, 24 OSC_OUT/PH1, 25 NRST, 26 PC0, 27 PC1, 28 PC2/SPI2_MISO/I2S2ext_SD, 29 PC3/SPI2_MOSI/I2S2_SD, 30 VDD, 31 VSSA, 32 VREF+, 33 VDDA, 34 PA0/USART2_CTS/UART4_TX, 35 PA1/USART2_RTS/UART4_RX, 36 PA2/USART2_TX, 37 PA3/USART2_RX, 38 VSS, 39 VDD, 40 PA4/SPI1_NSS/SPI3_NSS/USART2_CK, 41 PA5/SPI1_SCK, 42 PA6/SPI1_MISO, 43 PA7/SPI1_MOSI, 44 PC4, 45 PC5, 46 PB0, 47 PB1, 48 PB2/BOOT1, 49 PF11, 50 FSMC_A6/PF12, 51 VSS, 52 VDD, 53 FSMC_A7/PF13, 54 FSMC_A8/PF14, 55 FSMC_A9/PF15, 56 FSMC_A10/PG0, 57 FSMC_A11/PG1, 58 FSMC_D4/PE7, 59 FSMC_D5/PE8, 60 FSMC_D6/PE9, 61 VSS, 62 VDD, 63 FSMC_D7/PE10, 64 FSMC_D8/PE11, 65 FSMC_D9/PE12, 66 FSMC_D10/PE13, 67 FSMC_D11/PE14, 68 FSMC_D12/PE15, 69 PB10/SPI2_SCK/I2S2_CK/I2C2_SCL/USART3_TX, 70 PB11/I2C2_SDA/USART3_RX, 71 VCAP_1, 72 VDD, 73 PB12/SPI2_NSS/I2S2_WS/I2C2_SMBA/USART3_CK/CNA2_RX, 74 PB13/SPI2_SCK/I2S2_CK/USART3_CTS/CAN2_TX, 75 PB14/SPI2_MISO/USART3_RTS, 76 PB15/SPI2_MOSI/I2S2_SD, 77 PD8/FSMC_D13/USART3_TX, 78 PD9/FSMC_D14/USART3_RX, 79 PD10/FSMC_D15/USART3_CK, 80 PD11/FSMC_CLE/FSMC_A16/USART3_CTS, 81 PD12/FSMC_ALE/FSMC_A17/USART3_RTS, 82 PD13/FSMC_A18, 83 VSS, 84 VDD, 85 PD14/FSMC_D0, 86 PD15/FSMC_D1, 87 FSMC_A12/PG2, 88 FSMC_A13/PG3, 89 FSMC_A14/PG4, 90 FSMC_A15/PG5, 91 FSMC_INT2/PG6, 92 USART6_CK/FSMC_INT3/PG7, 93 USART6_RTS/PG8, 94 VSS, 95 VDD, 96 PC6/I2S2_MCK/USART6_TX, 97 PC7/I2S3_MCK/USART6_RX, 98 PC8/USART6_CK, 99 PC9/I2S_CKIN/I2C3_SDA, 100 PA8/USART1_CK, 101 PA9/USART1_TX/I2C3_SMBA, 102 PA10/USART1_RX, 103 PA11/USART1_CTS/CAN1_RX, 104 PA12/USART1_RTS/CAN1_TX, 105 PA13/SWDIO, 106 VCAP_2, 107 VSS, 108 VDD, 109 PA14/SWCLK, 110 PA15/SPI3_NSS/I2S3_WS, 111 PC10/SPI3_SCK/I2S3_CK/UART4_TX/USART3_TX, 112 PC11/SPI3_MISO/I2S3ext_SD/UART4_RX/USART3_RX, 113 PC12/SPI3_MOSI/I2S3_SD/UART5_TX/USART3_CK, 114 PD0/FSMC_D2/CAN1_RX, 115 PD1/FSMC_D2/CAN1_TX, 116 PD2/UART5_RX, 117 PD3/FSMC_CLK/USART2_CTS, 118 PD4/FSMC_NOE/USART2_RTS, 119 PD5/FSMC_NWE/USART2_TX, 120 VSS, 121 VDD, 122 PD6/FSMC_NWAIT/USART2_RX, 123 PD7/FSMC_NE1/FSMC_NCE2/USART2_CK, 124 USART6_RX/FSMC_NE2/FSMC_NCE3/PG9, 125 FSMC_NCE4_1/FSMC_NE3/PG10, 126 FSMC_NCE4_2/PG11, 127 USART6_RTS/FSMC_NE4/PG12, 128 USART6_CTS/FSMC_A24/PG13, 129 USART6_TX/FSMC_A25/PG14, 130 VSS, 131 VDD, 132 USART6_CTS/PG15, 133 PB3/SPI3_SCK/I2S3_CK/SPI1_SCK, 134 PB4/SPI3_MISO/SPI1_MISO/I2S3ext_SD, 135 PB5/I2C1_SMBA/CAN2_RX/SPI1_MOSI/SPI3_MOSI/I2S3_SD, 136 PB6/I2C1_SCL/CAN2_TX/USART1_TX, 137 PB7/I2C1_SDA/FSMC_NL/USART1_RX, 138 BOOT0, 139 PB8/I2C1_SCL/CAN1_RX, 140 PB9/SPI2_NSS/I2S2_WS/I2C1_SDA/CAN1_TX, 141 FSMC_NBL0/PE0, 142 FSMC_NBL1/PE1, 143 PDR_ON, 144 VDD

## stm32zet6
designator *
pins: 1 PE2, 2 PE3, 3 PE4, 4 PE5, 5 PE6, 6 VBAT, 7 PC13, 8 PC14, 9 PC15, 10 PF0, 11 PF1, 12 PF2, 13 PF3, 14 PF4, 15 PF5, 16 VSS_5, 17 VDD_5, 18 PF6, 19 PF7, 20 PF8, 21 PF9, 22 PF10, 23 OSC_IN, 24 OSC_OUT, 25 NRST, 26 PC0, 27 PC1, 28 PC2, 29 PC3, 30 VSSA, 31 VREF-, 32 VREF+, 33 VDDA, 34 PA0, 35 PA1, 36 PA2, 37 PA3, 38 VSS_4, 39 VDD_5, 40 PA4, 41 PA5, 42 PA6, 43 PA7, 44 PC4, 45 PC5, 46 PB0, 47 PB1, 48 PB2/BOOT1, 49 PF11, 50 PF12, 51 VSS_6, 52 VDD_6, 53 PF13, 54 PF14, 55 PF15, 56 PG0, 57 PG1, 58 PE7, 59 PE8, 60 PE9, 61 VSS_7, 62 VDD_7, 63 PE10, 64 PE11, 65 PE12, 66 PE13, 67 PE14, 68 PE15, 69 PB10, 70 PB11, 71 VSS_1, 72 VDD_1, 73 PB12, 74 PB13, 75 PB14, 76 PB15, 77 PD8, 78 PD9, 79 PD10, 80 PD11, 81 PD12, 82 PD13, 83 VSS_8, 84 VDD_8, 85 PD14, 86 PD15, 87 PG2, 88 PG3, 89 PG4, 90 PG5, 91 PG6, 92 PG7, 93 PG8, 94 VSS_9, 95 VDD_9, 96 PC6, 97 PC7, 98 PC8, 99 PC9, 100 PA8, 101 PA9, 102 PA10, 103 PA11, 104 PA12, 105 PA13, 106 NC, 107 VSS_2, 108 VDD_2, 109 PA14, 110 PA15, 111 PC10, 112 PC11, 113 PC12, 114 PD0, 115 PD1, 116 PD2, 117 PD3, 118 PD4, 119 PD5, 120 VSS_10, 121 VDD_10, 122 PD6, 123 PD7, 124 PG9, 125 PG10, 126 PG11, 127 PG12, 128 PG13, 129 PG14, 130 VSS_11, 131 VDD_11, 132 PG15, 133 PB3, 134 PB4, 135 PB5, 136 PB6, 137 PB7, 138 BOOT0, 139 PB8, 140 PB9, 141 PE0, 142 PE1, 143 VSS_3, 144 VDD_3
text: STM32f103zet6 德飞莱